# EAGLE library part QM_XC6SLX16_SDRAM (library sgqparts)
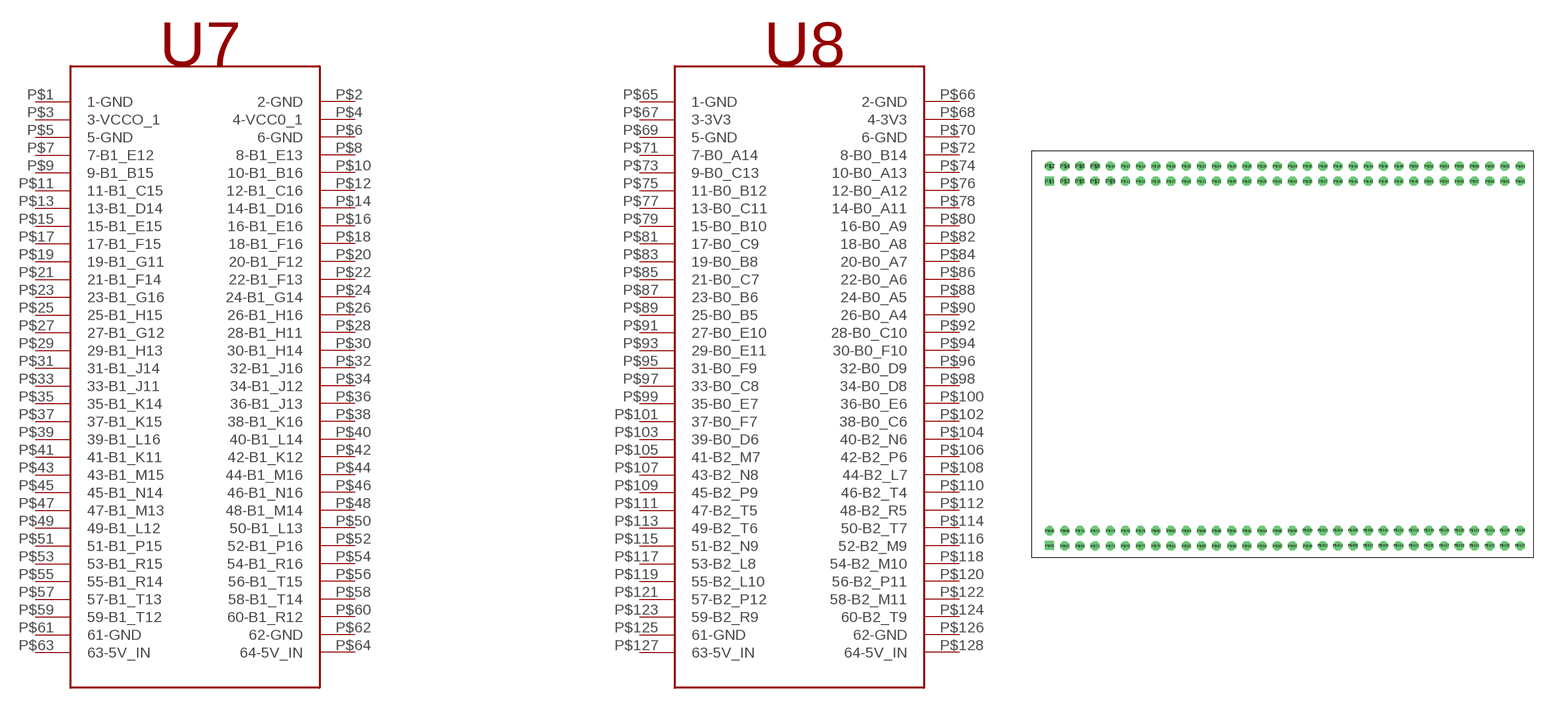
[diagram p2: symbol with the pads of QM_XC6SLX16_SDRAM; footprint QM_XC6SLX16_SDRAM]

Designator prefix -; gates G$1=QM_XC6SLX16_SDRAM G$2=QM_XC6SLX16_SDRAM_U8

## QM_XC6SLX16_SDRAM  [QM_XC6SLX16_SDRAM]
P$1  G$1:1-GND  pwr
P$2  G$1:2-GND  pwr
P$3  G$1:3-VCCO_1  pwr
P$4  G$1:4-VCC0_1  pwr
P$5  G$1:5-GND  pwr
P$6  G$1:6-GND  pwr
P$7  G$1:7-B1_E12
P$8  G$1:8-B1_E13
P$9  G$1:9-B1_B15
P$10  G$1:10-B1_B16
P$11  G$1:11-B1_C15
P$12  G$1:12-B1_C16
P$13  G$1:13-B1_D14
P$14  G$1:14-B1_D16
P$15  G$1:15-B1_E15
P$16  G$1:16-B1_E16
P$17  G$1:17-B1_F15
P$18  G$1:18-B1_F16
P$19  G$1:19-B1_G11
P$20  G$1:20-B1_F12
P$21  G$1:21-B1_F14
P$22  G$1:22-B1_F13
P$23  G$1:23-B1_G16
P$24  G$1:24-B1_G14
P$25  G$1:25-B1_H15
P$26  G$1:26-B1_H16
P$27  G$1:27-B1_G12
P$28  G$1:28-B1_H11
P$29  G$1:29-B1_H13
P$30  G$1:30-B1_H14
P$31  G$1:31-B1_J14
P$32  G$1:32-B1_J16
P$33  G$1:33-B1_J11
P$34  G$1:34-B1_J12
P$35  G$1:35-B1_K14
P$36  G$1:36-B1_J13
P$37  G$1:37-B1_K15
P$38  G$1:38-B1_K16
P$39  G$1:39-B1_L16
P$40  G$1:40-B1_L14
P$41  G$1:41-B1_K11
P$42  G$1:42-B1_K12
P$43  G$1:43-B1_M15
P$44  G$1:44-B1_M16
P$45  G$1:45-B1_N14
P$46  G$1:46-B1_N16
P$47  G$1:47-B1_M13
P$48  G$1:48-B1_M14
P$49  G$1:49-B1_L12
P$50  G$1:50-B1_L13
P$51  G$1:51-B1_P15
P$52  G$1:52-B1_P16
P$53  G$1:53-B1_R15
P$54  G$1:54-B1_R16
P$55  G$1:55-B1_R14
P$56  G$1:56-B1_T15
P$57  G$1:57-B1_T13
P$58  G$1:58-B1_T14
P$59  G$1:59-B1_T12
P$60  G$1:60-B1_R12
P$61  G$1:61-GND  pwr
P$62  G$1:62-GND  pwr
P$63  G$1:63-5V_IN  pwr
P$64  G$1:64-5V_IN  pwr
P$65  G$2:1-GND
P$66  G$2:2-GND
P$67  G$2:3-3V3
P$68  G$2:4-3V3
P$69  G$2:5-GND
P$70  G$2:6-GND
P$71  G$2:7-B0_A14
P$72  G$2:8-B0_B14
P$73  G$2:9-B0_C13
P$74  G$2:10-B0_A13
P$75  G$2:11-B0_B12
P$76  G$2:12-B0_A12
P$77  G$2:13-B0_C11
P$78  G$2:14-B0_A11
P$79  G$2:15-B0_B10
P$80  G$2:16-B0_A9
P$81  G$2:17-B0_C9
P$82  G$2:18-B0_A8
P$83  G$2:19-B0_B8
P$84  G$2:20-B0_A7
P$85  G$2:21-B0_C7
P$86  G$2:22-B0_A6
P$87  G$2:23-B0_B6
P$88  G$2:24-B0_A5
P$89  G$2:25-B0_B5
P$90  G$2:26-B0_A4
P$91  G$2:27-B0_E10
P$92  G$2:28-B0_C10
P$93  G$2:29-B0_E11
P$94  G$2:30-B0_F10
P$95  G$2:31-B0_F9
P$96  G$2:32-B0_D9
P$97  G$2:33-B0_C8
P$98  G$2:34-B0_D8
P$99  G$2:35-B0_E7
P$100  G$2:36-B0_E6
P$101  G$2:37-B0_F7
P$102  G$2:38-B0_C6
P$103  G$2:39-B0_D6
P$104  G$2:40-B2_N6
P$105  G$2:41-B2_M7
P$106  G$2:42-B2_P6
P$107  G$2:43-B2_N8
P$108  G$2:44-B2_L7
P$109  G$2:45-B2_P9
P$110  G$2:46-B2_T4
P$111  G$2:47-B2_T5
P$112  G$2:48-B2_R5
P$113  G$2:49-B2_T6
P$114  G$2:50-B2_T7
P$115  G$2:51-B2_N9
P$116  G$2:52-B2_M9
P$117  G$2:53-B2_L8
P$118  G$2:54-B2_M10
P$119  G$2:55-B2_L10
P$120  G$2:56-B2_P11
P$121  G$2:57-B2_P12
P$122  G$2:58-B2_M11
P$123  G$2:59-B2_R9
P$124  G$2:60-B2_T9
P$125  G$2:61-GND
P$126  G$2:62-GND
P$127  G$2:63-5V_IN
P$128  G$2:64-5V_IN

## Footprint QM_XC6SLX16_SDRAM (pad centres in mm)
drill 1 square: P$1 3,63; P$65 3,2
drill 1 octagon: P$2 3,65.54; P$3 5.54,63; P$4 5.54,65.54; P$5 8.08,63; P$6 8.08,65.54; P$7 10.62,63; P$8 10.62,65.54; P$9 13.16,63; P$10 13.16,65.54; P$11 15.7,63; P$12 15.7,65.54; P$13 18.24,63; P$14 18.24,65.54; P$15 20.78,63; P$16 20.78,65.54; P$17 23.32,63; P$18 23.32,65.54; P$19 25.86,63; P$20 25.86,65.54; P$21 28.4,63; P$22 28.4,65.54; P$23 30.94,63; P$24 30.94,65.54; P$25 33.48,63; P$26 33.48,65.54; P$27 36.02,63; P$28 36.02,65.54; P$29 38.56,63; P$30 38.56,65.54; P$31 41.1,63; P$32 41.1,65.54; P$33 43.64,63; P$34 43.64,65.54; P$35 46.18,63; P$36 46.18,65.54; P$37 48.72,63; P$38 48.72,65.54; P$39 51.26,63; P$40 51.26,65.54; P$41 53.8,63; P$42 53.8,65.54; P$43 56.34,63; P$44 56.34,65.54; P$45 58.88,63; P$46 58.88,65.54; P$47 61.42,63; P$48 61.42,65.54; P$49 63.96,63; P$50 63.96,65.54; P$51 66.5,63; P$52 66.5,65.54; P$53 69.04,63; P$54 69.04,65.54; P$55 71.58,63; P$56 71.58,65.54; P$57 74.12,63; P$58 74.12,65.54; P$59 76.66,63; P$60 76.66,65.54; P$61 79.2,63; P$62 79.2,65.54; P$63 81.74,63; P$64 81.74,65.54; P$66 3,4.5; P$67 5.54,1.96; P$68 5.54,4.5; P$69 8.08,1.96; P$70 8.08,4.5; P$71 10.62,1.96; P$72 10.62,4.5; P$73 13.16,1.96; P$74 13.16,4.5; P$75 15.7,1.96; P$76 15.7,4.5; P$77 18.24,1.96; P$78 18.24,4.5; P$79 20.78,1.96; P$80 20.78,4.5; P$81 23.32,1.96; P$82 23.32,4.5; P$83 25.86,1.96; P$84 25.86,4.5; P$85 28.4,1.96; P$86 28.4,4.5; P$87 30.94,1.96; P$88 30.94,4.5; P$89 33.48,1.96; P$90 33.48,4.5; P$91 36.02,1.96; P$92 36.02,4.5; P$93 38.56,1.96; P$94 38.56,4.5; P$95 41.1,1.96; P$96 41.1,4.5; P$97 43.64,1.96; P$98 43.64,4.5; P$99 46.18,1.96; P$100 46.18,4.5; P$101 48.72,1.96; P$102 48.72,4.5; P$103 51.26,1.96; P$104 51.26,4.5; P$105 53.8,1.96; P$106 53.8,4.5; P$107 56.34,1.96; P$108 56.34,4.5; P$109 58.88,1.96; P$110 58.88,4.5; P$111 61.42,1.96; P$112 61.42,4.5; P$113 63.96,1.96; P$114 63.96,4.5; P$115 66.5,1.96; P$116 66.5,4.5; P$117 69.04,1.96; P$118 69.04,4.5; P$119 71.58,1.96; P$120 71.58,4.5; P$121 74.12,1.96; P$122 74.12,4.5; P$123 76.66,1.96; P$124 76.66,4.5; P$125 79.2,1.96; P$126 79.2,4.5; P$127 81.74,1.96; P$128 81.74,4.5